# Altium integrated library SpriteTCXO.IntLib: 1 symbol
Pins are listed as number, name and electrical type; pins without a type are passive.

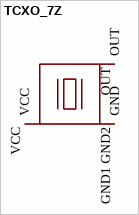
[diagram p0: symbol TCXO_7Z]

## TCXO_7Z
designator ?
footprint TXC_7Z
pins: GND1 GND2 GND, OUT, VCC